# Altium footprint library 7MBR100U4B120.PcbLib: 1 footprints
Each footprint in its own frame and in the unit in brackets; x right, y up, seen from the top. Pads: shape width x height; smd on the part's side, far side on the other; paste and mask are expansions set on the pad; w line width, h text height; cw(c..) or ccw(c..) is an arc to the next point about the centre after c.
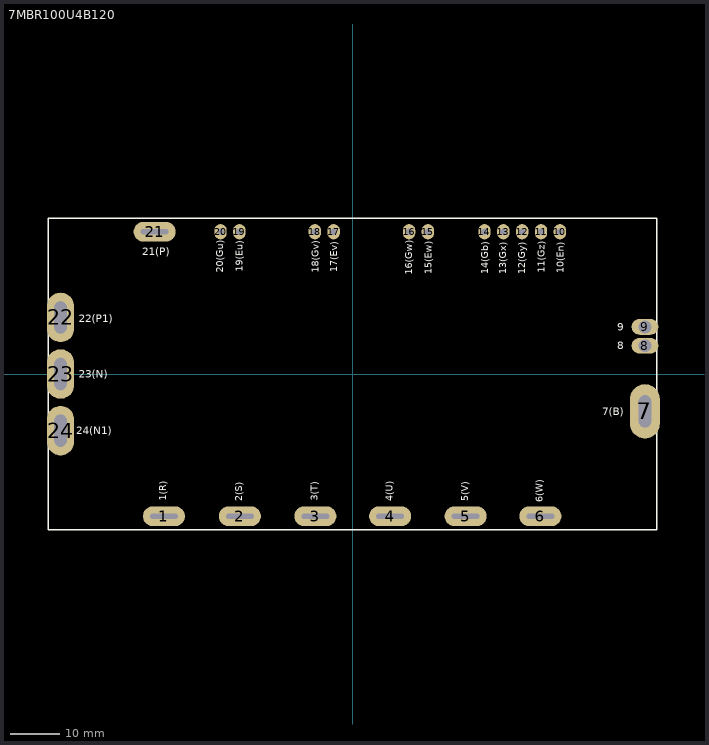
[diagram p0: the footprint, top view; thin cyan lines are the x and y axes]

## 7MBR100U4B120 [mm]
pads (24):
  oval 8.5x4 hole 1 slot 5.6 at 0 deg: 1(-38.1,-28.75) 2(-22.75,-28.75) 3(-7.493,-28.75) 4(7.6,-28.75) 5(22.86,-28.75) 6(37.973,-28.75) 21(-40.005,28.75)
  oval 6x11 hole 2.5 slot 6.5 at 90 deg: 7(59.1,-7.55)
  oval 5.4x3.2 hole 2.6: 8(59.1,5.7) 9(59.1,9.525)
  oval 2.5x3.1 hole 1.3: 10(41.91,28.75) 11(38.1,28.75) 12(34.29,28.75) 13(30.48,28.75) 14(26.67,28.75) 15(15.24,28.75) 16(11.43,28.75) 17(-3.81,28.75) 18(-7.62,28.75) 19(-22.86,28.75) 20(-26.67,28.75)
  oval 5.5x10 hole 2.5 slot 6.5 at 90 deg: 22(-59,11.43) 23(-59,0) 24(-59,-11.45)
Top Overlay:
  lines w0.254: -61.468,-31.496 61.468,-31.496 61.468,31.496 -61.468,31.496 -61.468,-31.496
  text "6(W)" at 38.476,-25.869 h1.4
  text "5(V)" at 23.363,-25.722 h1.4
  text "3(T)" at -6.99,-25.649 h1.4
  text "2(S)" at -22.247,-25.722 h1.4
  text "20(Gu)" at -26.167,20.439 h1.4
  text "18(Gv)" at -6.863,20.459 h1.4
  text "16(Gw)" at 12.06,20.058 h1.4
  text "13(Gx)" at 31.11,20.205 h1.4
  text "11(Gz)" at 38.857,20.442 h1.4
  text "10(En)" at 42.667,20.405 h1.4
  text "24(N1)" at -55.865,-12.193 h1.52
  text "23(N)" at -55.306,-0.743 h1.52
  text "21(P)" at -42.446,24.022 h1.52
  text "22(P1)" at -55.317,10.433 h1.52
  text "7(B)" at 50.441,-8.363 h1.52
  text "8" at 53.467,4.972 h1.52
  text "9" at 53.503,8.782 h1.52
  text "12(Gy)" at 34.92,20.168 h1.4
  text "14(Gb)" at 27.427,20.168 h1.4
  text "15(Ew)" at 15.997,20.131 h1.4
  text "17(Ev)" at -3.053,20.569 h1.4
  text "19(Eu)" at -22.23,20.659 h1.4
  text "1(R)" at -37.597,-25.612 h1.4
  text "4(U)" at 8.103,-25.759 h1.4
3D body "7MBR100U4B120.STEP": height 0.6, standoff -20.1, extent -61.5,-31.5 61.5,31.5